# Altium footprint library IRF7749L1TRPBF.PcbLib: 2 footprints
Each footprint in its own frame and in the unit in brackets; x right, y up, seen from the top. Pads: shape width x height; smd on the part's side, far side on the other; paste and mask are expansions set on the pad; w line width, h text height; cw(c..) or ccw(c..) is an arc to the next point about the centre after c.
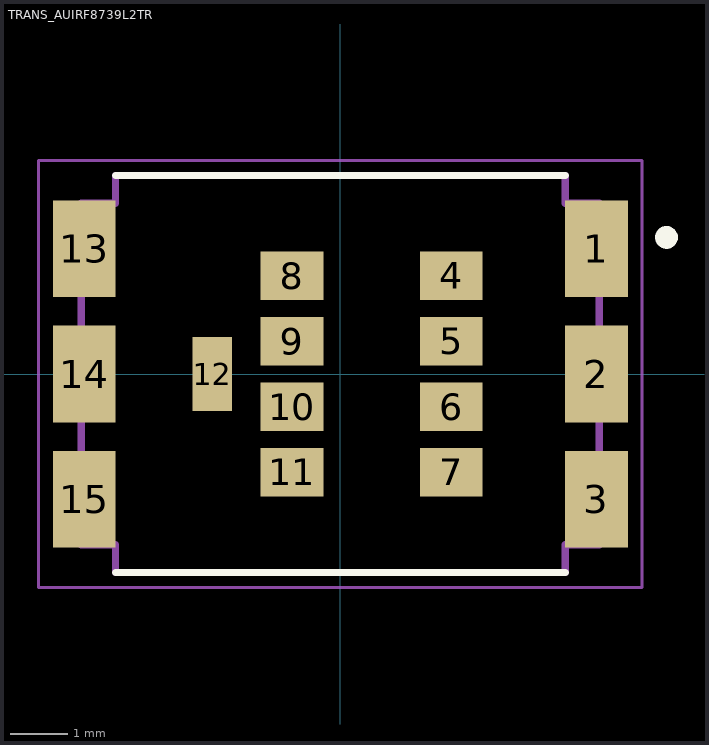
[diagram p0: the footprints below, top view; thin cyan lines are the x and y axes]

## PCBComponent_1 [mm]

## TRANS_AUIRF8739L2TR [mm]
pads (15):
  rect 1.1x1.7 smd paste-2: 1(4.5,2.2) 2(4.5,0) 3(4.5,-2.2) 13(-4.5,2.2) 14(-4.5,0) 15(-4.5,-2.2)
  rect 1.1x0.85 smd paste-2: 4(1.95,1.725) 5(1.95,0.575) 6(1.95,-0.575) 7(1.95,-1.725) 8(-0.85,1.725) 9(-0.85,0.575) 10(-0.85,-0.575) 11(-0.85,-1.725)
  rect 0.7x1.3 smd paste-2: 12(-2.25,0)
Top Overlay:
  circle w0.2: c5.73,2.4 r0.1
  lines w0.127: -3.95,-3.487 3.95,-3.487 ; -3.95,3.487 3.95,3.487
Mechanical 13:
  lines w0.127: -4.55,-3 -3.95,-3 -3.95,-3.487 3.95,-3.487 3.95,-3 4.55,-3 ; -4.55,-2.975 -4.55,2.975 ; -4.55,3 -3.95,3 -3.95,3.487 3.95,3.487 3.95,3 4.55,3 ; 4.55,-2.975 4.55,2.975
Mechanical 15:
  lines w0.05: -5.3,-3.75 -5.3,3.75 5.3,3.75 5.3,-3.75 -5.3,-3.75
3D body "step_temp.STEP": height 0.67, standoff -0.07, extent -4.55,-3.487 4.55,3.487